# Altium footprint library doyle_footprints.PcbLib: 8 footprints
Each footprint in its own frame and in the unit in brackets; x right, y up, seen from the top. Pads: shape width x height; smd on the part's side, far side on the other; paste and mask are expansions set on the pad; w line width, h text height; cw(c..) or ccw(c..) is an arc to the next point about the centre after c.
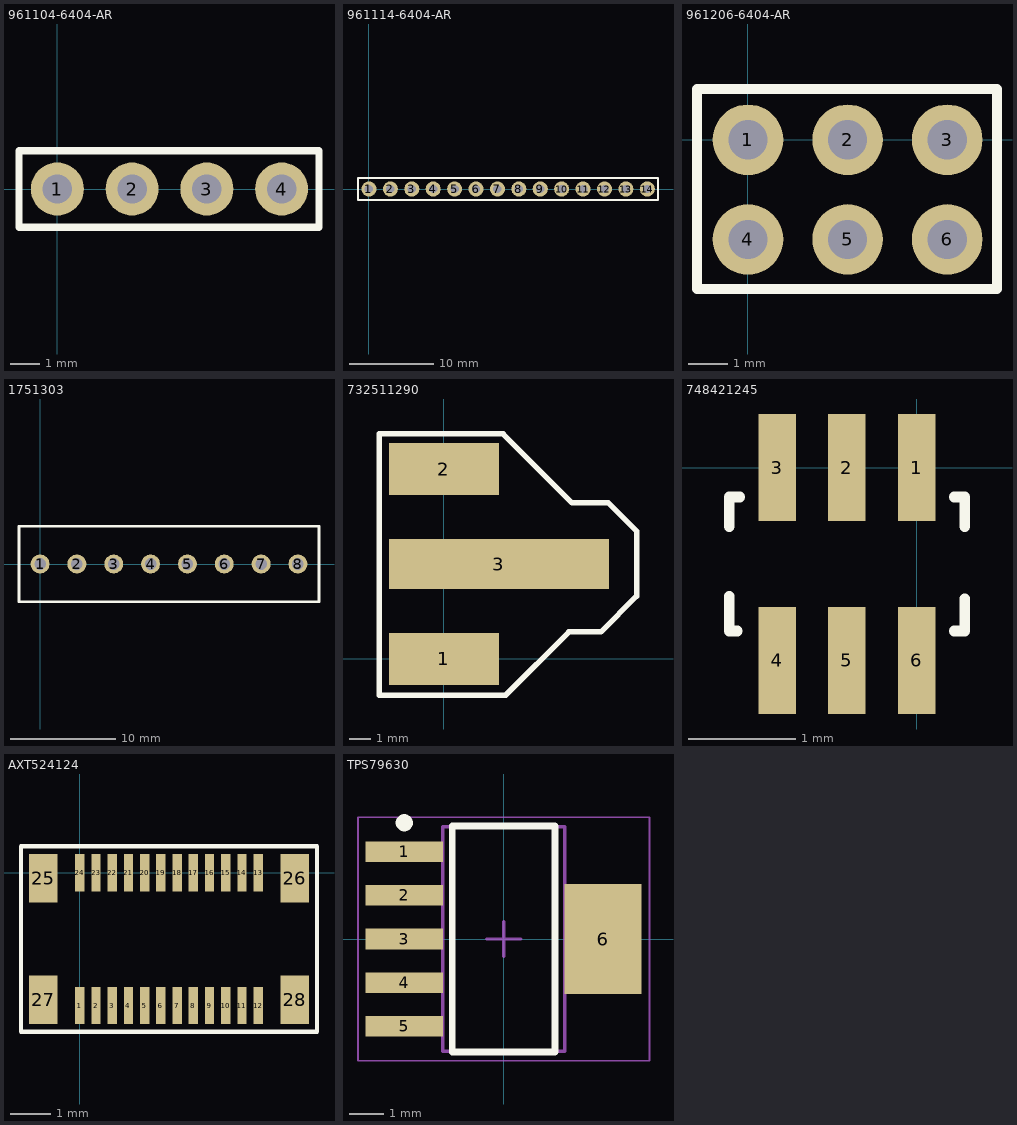
[diagram p0: the footprints below, top view; thin cyan lines are the x and y axes]

## 961104-6404-AR [mm] "3M- 4pos vert header"
pads (4):
  round 1.8 hole 1: 1(0,0) 2(2.54,0) 3(5.08,0) 4(7.62,0)
Top Overlay:
  lines w0.254: -1.3,-1.3 8.89,-1.3 8.89,1.3 -1.3,1.3 -1.3,-1.3

## 961114-6404-AR [mm] "3M- 14pos vert header"
pads (14):
  round 1.8 hole 1: 1(0,0) 2(2.54,0) 3(5.08,0) 4(7.62,0) 5(10.16,0) 6(12.7,0) 7(15.24,0) 8(17.78,0) 9(20.32,0) 10(22.86,0) 11(25.4,0) 12(27.94,0) 13(30.48,0) 14(33.02,0)
Top Overlay:
  lines w0.254: -1.3,-1.3 34.29,-1.3 34.29,1.3 -1.3,1.3 -1.3,-1.3

## 961206-6404-AR [mm] "3M- 6pos vert 2x3 header"
pads (6):
  round 1.8 hole 1: 1(0,0) 2(2.54,0) 3(5.08,0) 4(0,-2.54) 5(2.54,-2.54) 6(5.08,-2.54)
Top Overlay:
  lines w0.254: -1.3,-3.81 -1.3,1.3 6.35,1.3 6.35,-3.81 -1.3,-3.81

## 1751303 [mm] "TERM BLOCK 8POS 3.5MM"
pads (8):
  round 1.8 hole 1.1: 1(0,0) 2(3.5,0) 3(7,0) 4(10.5,0) 5(14,0) 6(17.5,0) 7(21,0) 8(24.5,0)
Top Overlay:
  lines w0.254: -2,-3.6 26.5,-3.6 26.5,3.6 -2,3.6 -2,-3.6

## 732511290 [mm] "Molex SMA edge mount"
pads (3):
  rect 5.08x2.415 smd: 1(0,0) 2(0,8.765)
  rect 10.16x2.29 smd: 3(2.54,4.38)
Top Overlay:
  lines w0.254: -2.975,-1.675 2.85,-1.675 5.775,1.25 7.25,1.25 8.9,2.9 8.9,5.9 7.6,7.2 5.925,7.2 2.735,10.39 -2.975,10.39 -2.975,-1.675

## 748421245 [mm] "WU Balun 748421245"
pads (6):
  rect 0.35x1 smd: 1(0,0) 2(-0.65,0) 3(-1.3,0) 4(-1.3,-1.8) 5(-0.65,-1.8) 6(0,-1.8)
Top Overlay:
  lines w0.1: -1.75,-1.525 -1.675,-1.525 ; -1.75,-1.5 -1.75,-1.2 ; -1.75,-0.55 -1.75,-0.275 -1.65,-0.275 ; 0.35,-1.525 0.45,-1.525 0.45,-1.225 ; 0.35,-0.275 0.45,-0.275 0.45,-0.55

## AXT524124 [mm] "panasonic 24 pos header"
pads (28):
  rect 0.23x0.92 smd: 1(0,-3.28) 2(0.4,-3.28) 3(0.8,-3.28) 4(1.2,-3.28) 5(1.6,-3.28) 6(2,-3.28) 7(2.4,-3.28) 8(2.8,-3.28) 9(3.2,-3.28) 10(3.6,-3.28) 11(4,-3.28) 12(4.4,-3.28) 13(4.4,0) 14(4,0) 15(3.6,0) 16(3.2,0) 17(2.8,0) 18(2.4,0) 19(2,0) 20(1.6,0) 21(1.2,0) 22(0.8,0) 23(0.4,0) 24(0,0)
  rect 0.7x1.2 smd: 25(-0.9,-0.14) 26(5.3,-0.14) 27(-0.9,-3.14) 28(5.3,-3.14)
Top Overlay:
  lines w0.1: -1.45,-3.925 -1.45,0.65 5.85,0.65 5.85,-3.925 -1.45,-3.925

## TPS79630 [mm] "TI ultra-low noise LDO, 6 pins"
height 1.8
pads (6):
  rect 2.25x0.6 smd: 1(-2.9,2.54) 2(-2.9,1.27) 3(-2.9,0) 4(-2.9,-1.27) 5(-2.9,-2.54)
  rect 2.25x3.2 smd: 6(2.9,0)
Top Overlay:
  circle w0.25: c-2.9,3.39 r0.125
  lines w0.2: -1.5,-3.3 -1.5,3.3 1.5,3.3 1.5,-3.3 -1.5,-3.3
Mechanical 13:
  lines w0.1: -1.775,-3.275 -1.775,3.275 1.775,3.275 1.775,-3.275 -1.775,-3.275
Mechanical 15:
  lines w0.05: -4.25,-3.55 -4.25,3.55 4.25,3.55 4.25,-3.55 -4.25,-3.55
  lines w0.1: -0.5,0 0.5,0 ; 0,-0.5 0,0.5
3D body: height 1.8, standoff 0.02, extent -1.775,-3.275 1.775,3.275